# Altium schematic symbol library MPZ2012S601AT000.SchLib: 1 symbol
Pins are listed as number, name and electrical type; pins without a type are passive.

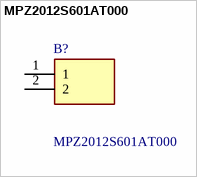
[diagram p0: symbol MPZ2012S601AT000]

## MPZ2012S601AT000
designator B?
Ferrite Beads 600ohms 2A 100mOhms 0805 Ferrite Chip; Manufacturer_Name: TDK; Geometry.Height: 1.05mm; Manufacturer_Part_Number: MPZ2012S601AT000; Mouser Part Number: 810-MPZ2012S601AT000; Mouser Price/Stock: https://www.mouser.co.uk/ProductDetail/TDK/MPZ2012S601AT000?qs=8Kz9Wu9QwqXtNFDW9LJXAQ%3D%3D; Arrow Part Number: MPZ2012S601AT000; Arrow Price/Stock: https://www.arrow.com/en/products/mpz2012s601at000/tdk?region=nac; Datasheet Link: https://product.tdk.com/system/files/dam/doc/product/emc/emc/beads/catalog/beads_commercial_power_mpz2012_en.pdf
footprint BEADC2012X105N
pins: 1, 2